# EAGLE library part CA56-21 (library X893)
http://www.datasheetcatalog.org/datasheets2/15/158203_1.pdf
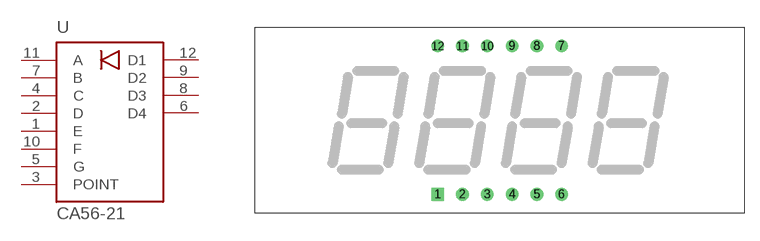
[diagram p127: symbol with the pads of CX56-21; footprint CX56-21]

Designator prefix -

## CA56-21CA56-21  [CX56-21]
1  E  pas
2  D  pas
3  POINT  pas
4  C  pas
5  G  pas
6  D4  pas
7  B  pas
8  D3  pas
9  D2  pas
10  F  pas
11  A  pas
12  D1  pas

## Footprint CX56-21 (pad centres in mm)
drill 0.8 square: 1 -6.35,-7.62
drill 0.8: 2 -3.81,-7.62; 3 -1.27,-7.62; 4 1.27,-7.62; 5 3.81,-7.62; 6 6.35,-7.62; 7 6.35,7.62; 8 3.81,7.62; 9 1.27,7.62; 10 -1.27,7.62; 11 -3.81,7.62; 12 -6.35,7.62